# Altium footprint library 68uH İndüktör.PcbLib: 1 footprints
Each footprint in its own frame and in the unit in brackets; x right, y up, seen from the top. Pads: shape width x height; smd on the part's side, far side on the other; paste and mask are expansions set on the pad; w line width, h text height; cw(c..) or ccw(c..) is an arc to the next point about the centre after c.
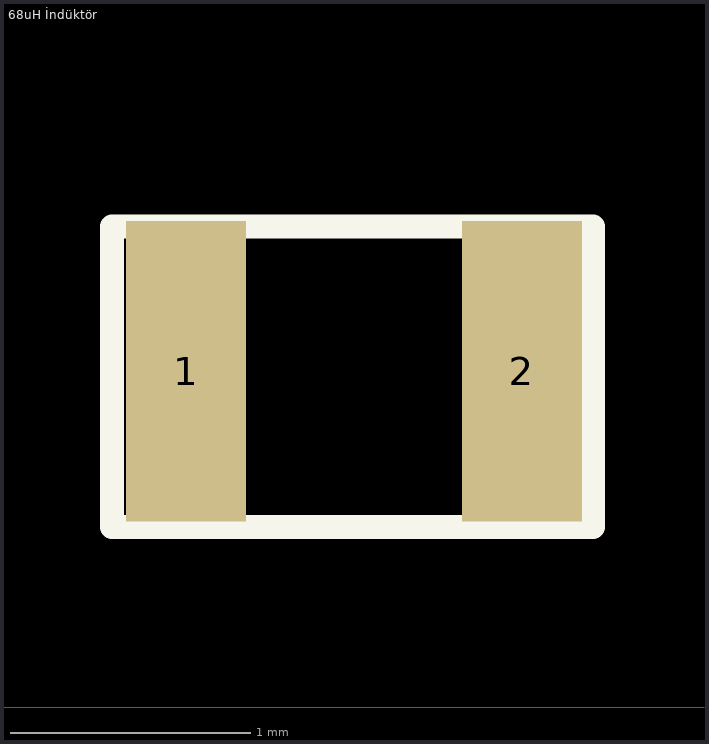
[diagram p0: the footprint, top view; thin cyan lines are the x and y axes]

## 68uH İndüktör [mm]
pads (2):
  rect 0.5x1.25 smd mask+0.01: 1(-2.692,1.397) 2(-1.295,1.397)
Top Overlay:
  lines w0.1: -3,0.75 -1,0.75 -1,2 -3,2 -3,0.75